# EAGLE library part ICM7555CBAZ (library Intersil_By_element14_Batch_1)
CMOS RC timers
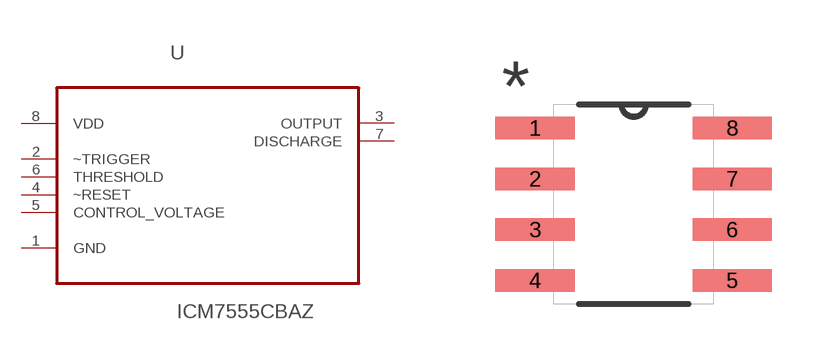
[diagram p208: symbol with the pads of SOIC127P600X175-8N; footprint SOIC127P600X175-8N]

Designator prefix U

## ICM7555CBAZ (MPN: ICM7555CBAZ; OC_FARNELL: 1561939; OC_NEWARK: 57K3899; PACKAGE: 8-SOIC; SUPPLIER: Intersil)  [SOIC127P600X175-8N]
1  GND  pas
2  ~TRIGGER  in
3  OUTPUT  out
4  ~RESET  in
5  CONTROL_VOLTAGE  in
6  THRESHOLD  in
7  DISCHARGE  out
8  VDD  pwr

## Footprint SOIC127P600X175-8N (pad centres in mm)
smd 1.981 x 0.559: 1 -2.464,1.905; 2 -2.464,0.635; 3 -2.464,-0.635; 4 -2.464,-1.905; 5 2.464,-1.905; 6 2.464,-0.635; 7 2.464,0.635; 8 2.464,1.905